# Altium footprint library PCB - LEADED - LQFP - TI TQFP-64 PAG0064A.PcbLib: 1 footprints
Each footprint in its own frame and in the unit in brackets; x right, y up, seen from the top. Pads: shape width x height; smd on the part's side, far side on the other; paste and mask are expansions set on the pad; w line width, h text height; cw(c..) or ccw(c..) is an arc to the next point about the centre after c.
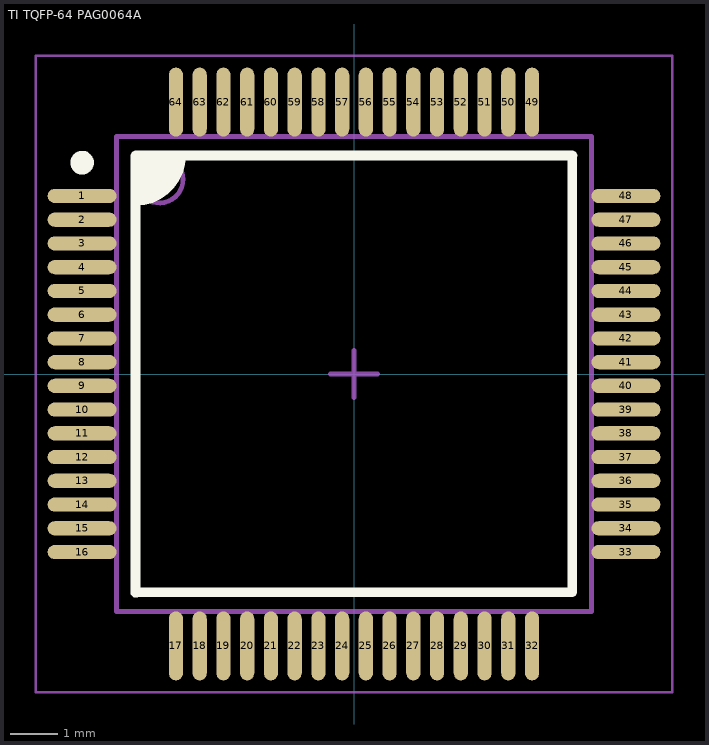
[diagram p0: the footprint, top view; thin cyan lines are the x and y axes]

## TI TQFP-64 PAG0064A [mm] "TQFP-64 Package , 64-Leades, 10.00 x 10.00 mm Body , 0.5 mm Pitch"
height 1.2
pads (64):
  oval 1.45x0.3 smd: 1(-5.725,3.75) 2(-5.725,3.25) 3(-5.725,2.75) 4(-5.725,2.25) 5(-5.725,1.75) 6(-5.725,1.25) 7(-5.725,0.75) 8(-5.725,0.25) 9(-5.725,-0.25) 10(-5.725,-0.75) 11(-5.725,-1.25) 12(-5.725,-1.75) 13(-5.725,-2.25) 14(-5.725,-2.75) 15(-5.725,-3.25) 16(-5.725,-3.75) 33(5.725,-3.75) 34(5.725,-3.25) 35(5.725,-2.75) 36(5.725,-2.25) 37(5.725,-1.75) 38(5.725,-1.25) 39(5.725,-0.75) 40(5.725,-0.25) 41(5.725,0.25) 42(5.725,0.75) 43(5.725,1.25) 44(5.725,1.75) 45(5.725,2.25) 46(5.725,2.75) 47(5.725,3.25) 48(5.725,3.75)
  oval 0.3x1.45 smd: 17(-3.75,-5.725) 18(-3.25,-5.725) 19(-2.75,-5.725) 20(-2.25,-5.725) 21(-1.75,-5.725) 22(-1.25,-5.725) 23(-0.75,-5.725) 24(-0.25,-5.725) 25(0.25,-5.725) 26(0.75,-5.725) 27(1.25,-5.725) 28(1.75,-5.725) 29(2.25,-5.725) 30(2.75,-5.725) 31(3.25,-5.725) 32(3.75,-5.725) 49(3.75,5.725) 50(3.25,5.725) 51(2.75,5.725) 52(2.25,5.725) 53(1.75,5.725) 54(1.25,5.725) 55(0.75,5.725) 56(0.25,5.725) 57(-0.25,5.725) 58(-0.75,5.725) 59(-1.25,5.725) 60(-1.75,5.725) 61(-2.25,5.725) 62(-2.75,5.725) 63(-3.25,5.725) 64(-3.75,5.725)
Top Overlay:
  circle w0.25: c-5.725,4.45 r0.125
  region: -4.7,-4.6 -4.7,4.6 -4.7,4.62 -4.685,4.657 -4.657,4.685 -4.62,4.7 -4.6,4.7 4.6,4.7 4.62,4.7 4.657,4.685 4.685,4.657 4.7,4.62 4.7,4.6 4.7,4.58 4.685,4.543 4.657,4.515 4.62,4.5 4.6,4.5 -3.554,4.5 -3.563,4.409 -3.611,4.234 -3.689,4.07 -3.793,3.921 -3.921,3.793 -4.07,3.689 -4.234,3.611 -4.409,3.563 -4.5,3.554 -4.5,-4.6 -4.5,-4.642 -4.558,-4.7 -4.642,-4.7 -4.7,-4.642
  lines w0.1: -4.6,3.6 ccw(c-4.6,4.6) -3.6,4.6
  lines w0.2: -4.6,-4.6 -4.6,4.6 4.6,4.6 4.6,-4.6 -4.6,-4.6
Mechanical 13:
  circle w0.1: c-4.1,4.1 r0.5
  lines w0.1: -5,-5 -5,5 5,5 5,-5 -5,-5
Mechanical 15:
  lines w0.05: -6.7,-6.7 -6.7,6.7 6.7,6.7 6.7,-6.7 -6.7,-6.7
  lines w0.1: -0.5,0 0.5,0 ; 0,-0.5 0,0.5
3D body "TI - PGA-64 - PAG0064A v2.step": height 1.2, standoff 0, extent -6,-6 6,6